# Altium schematic symbol library IR2183S.Schlib: 1 symbol
Pins are listed as number, name and electrical type; pins without a type are passive.

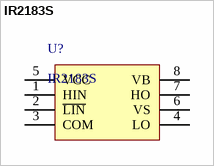
[diagram p0: symbol IR2183S]

## IR2183S
designator U?
Half-Bridge Gate Driver IC Inverting, Non-Inverting 8-SOIC
pins: 1 HIN, 2 ~{LIN}, 3 COM, 4 LO, 5 VCC, 6 VS, 7 HO, 8 VB